# EAGLE library part SKY13405-490LF (library psas_c3_team05)
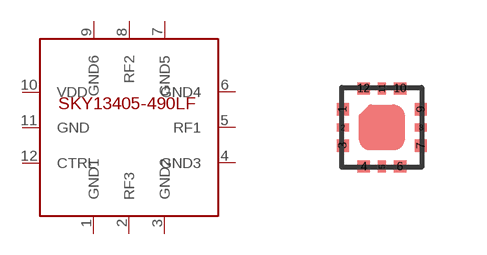
[diagram p12: symbol with the pads of SKY13405-490LF; footprint SKY13405-490LF]

Designator prefix -

## SKY13405-490LF  [SKY13405-490LF]
1  GND1
2  RF3
3  GND2
4  GND3
5  RF1
6  GND4
7  GND5
8  RF2
9  GND6
10  VDD  pwr
11  GND
12  CTRL  in

## Footprint SKY13405-490LF (pad centres in mm)
smd 0.3 x 0.31: 1 -0.996,0.471; 3 -0.996,-0.439; 7 0.964,-0.439; 9 0.964,0.471
smd 0.3 x 0.2: 2 -0.996,0.016; 8 0.964,0.016
smd 0.31 x 0.3: 4 -0.471,-0.964; 6 0.439,-0.964; 10 0.439,0.996; 12 -0.471,0.996
smd 0.2 x 0.3: 5 -0.016,-0.964; 11 -0.016,0.996